# Altium footprint library ANT_Miner_CtrlBoard_V1.1.PcbLib: 24 footprints (part 1 of 2)
Each footprint in its own frame and in the unit in brackets; x right, y up, seen from the top. Pads: shape width x height; smd on the part's side, far side on the other; paste and mask are expansions set on the pad; w line width, h text height; cw(c..) or ccw(c..) is an arc to the next point about the centre after c.
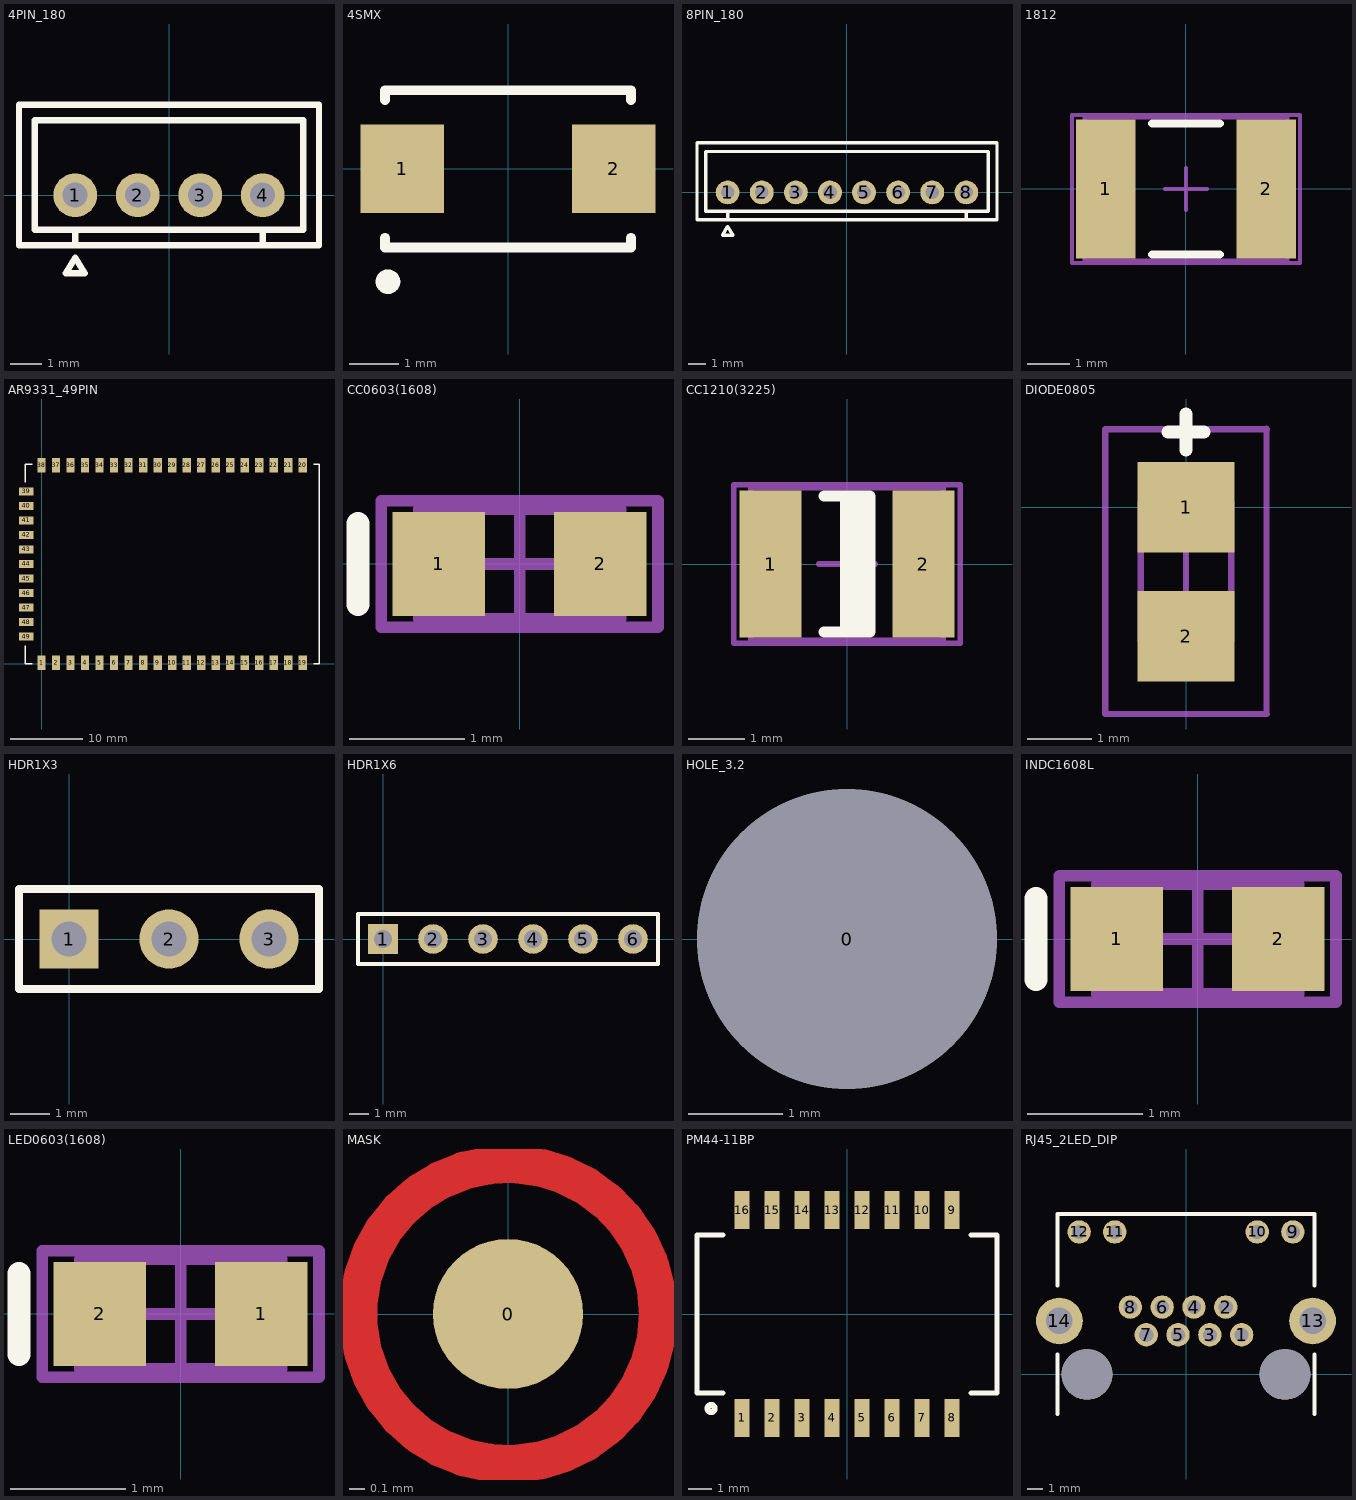
[diagram p0: the footprints below, top view; thin cyan lines are the x and y axes]

## 4PIN_180 [mm]
height 6.8
pads (4):
  round 1.4 hole 0.8: 1(-3,0) 2(-1,0) 3(1,0) 4(3,0)
Top Overlay:
  lines w0.203: -3,-1.6 -3,-1.1 ; 3,-1.6 3,-1.1 ; -4.8,-1.6 4.8,-1.6 4.8,2.9 -4.8,2.9 -4.8,-1.6 ; -4.3,-1.1 4.3,-1.1 4.3,2.4 -4.3,2.4 -4.3,-1.1 ; -3.3,-2.5 -3,-2 -2.7,-2.5 -3.3,-2.5
3D body: height 6.1, standoff -2.2, extent -5,-1.8 5,3

## 4SMX [mm]
height 18.15
pads (2):
  rect 1.7x1.8 smd: 1(-2.15,0) 2(2.15,0)
Top Overlay:
  circle w0.25: c-2.441,-2.293 r0.125
  lines w0.2: -2.5,-1.4 -2.5,-1.6 2.5,-1.6 2.5,-1.4 ; -2.5,1.4 -2.5,1.6 2.5,1.6 2.5,1.4

## 8PIN_180 [mm]
height 6.8
pads (8):
  round 1.4 hole 0.8: 1(-7,0) 2(-5,0) 3(-3,0) 4(-1,0) 5(1,0) 6(3,0) 7(5,0) 8(7,0)
Top Overlay:
  lines w0.203: -7,-1.6 -7,-1.1 ; 7,-1.6 7,-1.1 ; -8.8,-1.6 -8.8,2.9 8.8,2.9 8.8,-1.6 -8.8,-1.6 ; -8.3,-1.1 -8.3,2.4 8.3,2.4 8.3,-1.1 -8.3,-1.1 ; -7.3,-2.5 -6.7,-2.5 -7,-2 -7.3,-2.5
3D body: height 6.1, standoff -2.2, extent -9,-1.8 9,3

## 1812 [mm] "Chip Capacitor, Body 4.5x3.2mm, IPC High Density"
height 1.4
pads (2):
  rect 1.4x3.3 smd: 1(-1.9,0) 2(1.9,0)
Top Overlay:
  lines w0.2: -0.8,-1.55 0.8,-1.55 ; -0.8,1.55 0.8,1.55
Mechanical 13:
  lines w0.1: -2.4,-1.7 2.4,-1.7 2.4,1.7 -2.4,1.7 -2.4,-1.7
Mechanical 15:
  lines w0.1: -0.5,0 0.5,0 ; 0,-0.5 0,0.5 ; -2.7,-1.75 2.7,-1.75 2.7,1.75 -2.7,1.75 -2.7,-1.75
3D body: height 1.4, standoff 0, extent -2.4,-1.7 2.4,1.7

## AR9331_49PIN [mm] "AR9331 49PIN"
height 2.5
pads (49):
  rect 1.143x2 smd: 1(0,0.158) 2(2,0.158) 3(4,0.158) 4(6,0.158) 5(8,0.158) 6(10,0.158) 7(12,0.158) 8(14,0.158) 9(16,0.158) 10(18,0.158) 11(20,0.158) 12(22,0.158) 13(24,0.158) 14(26,0.158) 15(28,0.158) 16(30,0.158) 17(32,0.158) 18(34,0.158) 19(36,0.158) 20(36,27.341) 21(34,27.341) 22(32,27.341) 23(30,27.341) 24(28,27.341) 25(26,27.341) 26(24,27.341) 27(22,27.341) 28(20,27.341) 29(18,27.341) 30(16,27.341) 31(14,27.341) 32(12,27.341) 33(10,27.341) 34(8,27.341) 35(6,27.341) 36(4,27.341) 37(2,27.341) 38(0,27.341)
  rect 2x1.146 smd: 39(-2.11,23.75) 40(-2.11,21.75) 41(-2.11,19.75) 42(-2.11,17.75) 43(-2.11,15.75) 44(-2.11,13.75) 45(-2.11,11.75) 46(-2.11,9.75) 47(-2.11,7.75) 48(-2.11,5.75) 49(-2.11,3.75)
Top Overlay:
  lines w0.203: -2.25,2.5 -2.25,0 -1.25,0 ; -2.25,25 -2.25,27.5 -1.25,27.5 ; 37.5,0 38.25,0 38.25,27.5 37.5,27.5

## CC0603(1608) [mm] "Chip Capacitor, Body 1.6x0.8mm, IPC High Density"
height 0.85
pads (2):
  rect 0.8x0.9 smd: 1(-0.7,0) 2(0.7,0)
Top Overlay:
  lines w0.2: -1.4,-0.35 -1.4,0.35
Mechanical 13:
  lines w0.1: -0.875,-0.475 0.875,-0.475 0.875,0.475 -0.875,0.475 -0.875,-0.475
Mechanical 15:
  lines w0.1: -0.475,0 0.475,0 ; 0,-0.475 0,0.475 ; -1.2,-0.55 1.2,-0.55 1.2,0.55 -1.2,0.55 -1.2,-0.55
3D body: height 0.85, standoff 0, extent -0.875,-0.475 0.875,0.475

## CC1210(3225) [mm] "Chip Capacitor, Body 3.2x2.5mm, IPC High Density"
height 1.35
pads (2):
  rect 1.1x2.6 smd: 1(-1.35,0) 2(1.35,0)
Top Overlay:
  rectangle: -0.125,-1.2 0.425,1.2
  lines w0.2: -0.4,-1.2 0.4,-1.2 0.4,1.2 -0.4,1.2
Mechanical 13:
  lines w0.1: -1.7,-1.35 -1.7,1.35 1.7,1.35 1.7,-1.35 -1.7,-1.35
Mechanical 15:
  lines w0.1: -0.5,0 0.5,0 ; 0,-0.5 0,0.5 ; -2,-1.4 -2,1.4 2,1.4 2,-1.4 -2,-1.4
3D body: height 1.35, standoff 0, extent -1.7,-1.35 1.7,1.35

## DIODE0805 [mm]
height 0.9
pads (2):
  rect 1.5x1.4 smd: 1(0,0) 2(0,-2)
Top Overlay:
  lines w0.203: -0.279,1.159 0.279,1.159 ; 0,0.88 0,1.438
Mechanical 13:
  lines w0.1: -0.7,-2.075 -0.7,0.075 0.7,0.075 0.7,-2.075 -0.7,-2.075
Mechanical 15:
  lines w0.1: 0,-1.5 0,-0.5 ; 1.245,-3.19 1.245,1.21 ; 1.25,-3.2 -1.25,-3.2 -1.25,1.2 1.25,1.2
3D body: height 0.7, standoff 0, extent -0.7,-2.075 0.7,0.075

## HDR1X3 [mm] "Connector; Header; 3 Position"
height 18.15
pads (3):
  rect 1.5x1.5 hole 0.9: 1(0,0)
  round 1.5 hole 0.9: 2(2.54,0) 3(5.08,0)
Top Overlay:
  lines w0.2: -1.27,-1.27 6.35,-1.27 6.35,1.27 -1.27,1.27 -1.27,-1.27

## HDR1X6 [mm] "Connector; Header; 6 Position"
height 18.15
pads (6):
  rect 1.5x1.5 hole 0.9: 1(0,0)
  round 1.5 hole 0.9: 2(2.54,0) 3(5.08,0) 4(7.62,0) 5(10.16,0) 6(12.7,0)
Top Overlay:
  lines w0.2: -1.27,-1.27 -1.27,1.27 13.97,1.27 13.97,-1.27 -1.27,-1.27

## HOLE_3.2 [mm]
pads (1):
  round 3.2 hole 3.2 unplated: 0(4,0)

## INDC1608L [mm] "Chip Inductor, Body 1.6x0.8mm, IPC High Density"
height 0.55
pads (2):
  rect 0.8x0.9 smd: 1(-0.7,0) 2(0.7,0)
Top Overlay:
  lines w0.2: -1.4,-0.35 -1.4,0.35
Mechanical 13:
  lines w0.1: -0.875,-0.475 0.875,-0.475 0.875,0.475 -0.875,0.475 -0.875,-0.475
Mechanical 15:
  lines w0.1: -0.475,0 0.475,0 ; 0,-0.475 0,0.475 ; -1.2,-0.55 1.2,-0.55 1.2,0.55 -1.2,0.55 -1.2,-0.55
3D body: height 0.55, standoff 0, extent -0.875,-0.475 0.875,0.475

## LED0603(1608) [mm] "Chip LED, Body 1.6x0.8mm, IPC High Density"
height 18.15
pads (2):
  rect 0.8x0.9 smd: 1(0.7,0) 2(-0.7,0)
Top Overlay:
  lines w0.2: -1.4,-0.35 -1.4,0.35
Mechanical 13:
  lines w0.1: -0.875,-0.475 -0.875,0.475 0.875,0.475 0.875,-0.475 -0.875,-0.475
Mechanical 15:
  lines w0.1: -0.475,0 0.475,0 ; 0,-0.475 0,0.475 ; -1.2,-0.55 -1.2,0.55 1.2,0.55 1.2,-0.55 -1.2,-0.55
3D body: height 0.85, standoff 0, extent -0.875,-0.475 0.875,0.475

## MASK [mm] "SMD MASK 1mm"
height 18.15
pads (1):
  round 1 smd: 0(0,0)
Top Layer:
  circle w0.254: c0,0 r1
Top Paste:
  circle w0.254: c0,0 r0.508
  circle w1.5: c0,0 r0.508
Top Solder:
  circle w1: c0,0 r0.762

## PM44-11BP [mm]
height 6
pads (16):
  rect 0.64x1.6 smd: 1(-4.445,-4.4) 2(-3.175,-4.4) 3(-1.905,-4.4) 4(-0.635,-4.4) 5(0.635,-4.4) 6(1.905,-4.4) 7(3.175,-4.4) 8(4.445,-4.4) 9(4.445,4.4) 10(3.175,4.4) 11(1.905,4.4) 12(0.635,4.4) 13(-0.635,4.4) 14(-1.905,4.4) 15(-3.175,4.4) 16(-4.445,4.4)
Top Overlay:
  circle w0.254: c-5.75,-4 r0.15
  lines w0.203: -5.25,-3.35 -6.35,-3.35 -6.35,3.35 -5.25,3.35 ; 5.25,-3.35 6.35,-3.35 6.35,3.35 5.25,3.35

## RJ45_2LED_DIP [mm]
height 13.1
pads (16):
  round 1.5 hole 0.9: 1(3.57,2.54) 2(2.55,4.32) 3(1.53,2.54) 4(0.51,4.32) 5(-0.51,2.54) 6(-1.53,4.32) 7(-2.55,2.54) 8(-3.57,4.32) 9(6.86,9.14) 10(4.57,9.14) 11(-4.57,9.14) 12(-6.86,9.14)
  round 3 hole 1.7: 13(8.125,3.43) 14(-8.125,3.43)
  round 3.25 hole 3.25: ""(-6.35,0) ""(6.35,0)
Top Overlay:
  lines w0.254: -8.26,-2.54 -8.26,1.265 -8.255,1.27 ; -8.255,5.715 -8.255,10.29 8.26,10.29 ; 8.255,1.27 8.26,1.265 8.26,-2.54 ; 8.255,5.715 8.255,10.245 8.26,10.25